# Altium footprint library Si7021-A20.PcbLib: 2 footprints
Each footprint in its own frame and in the unit in brackets; x right, y up, seen from the top. Pads: shape width x height; smd on the part's side, far side on the other; paste and mask are expansions set on the pad; w line width, h text height; cw(c..) or ccw(c..) is an arc to the next point about the centre after c.
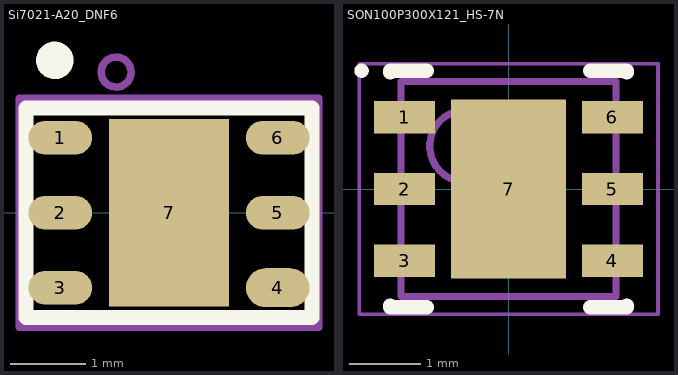
[diagram p0: the footprints below, top view; thin cyan lines are the x and y axes]

## Si7021-A20_DNF6 [mm] "Si7021-A20_DNF6"
pads (7):
  oval 0.85x0.45 smd: 1(5.535,1) 2(5.535,0) 3(5.535,-1) 5(8.435,0) 6(8.435,1)
  oval 0.85x0.52 smd: 4(8.435,-1)
  rect 1.6x2.5 smd: 7(6.985,0)
Top Overlay:
  circle w0.25: c5.461,2.032 r0.125
  lines w0.2: 5.08,-1.397 5.08,1.397 8.89,1.397 8.89,-1.397 5.08,-1.397
Mechanical 13:
  lines w0.1: 6.477,1.905 ccw(c6.279,1.875) 6.479,1.875 ; 4.985,-1.524 4.985,1.524 8.985,1.524 8.985,-1.524 4.985,-1.524
Mechanical 15:
  lines w0.1: 6.485,0 7.485,0 ; 6.985,-0.5 6.985,0.5

## SON100P300X121_HS-7N [mm] "SON, 6-Leads, Body 3,00x3,00mm, Pitch 1,00mm, Thermal Pad 1,60x0,12mm, IPC Medium Density"
height 1.21
pads (7):
  rect 0.85x0.45 smd mask+0: 1(-1.45,1) 2(-1.45,0) 3(-1.45,-1) 4(1.45,-1) 5(1.45,0) 6(1.45,1)
  rect 1.6x2.5 smd: 7(0,0)
Top Overlay:
  circle w0.1: c-2.05,1.65 r0.05
  lines w0.2: -1.65,-1.625 -1.65,-1.65 -1.14,-1.65 ; -1.65,1.625 -1.65,1.65 -1.14,1.65 ; 1.14,-1.65 1.65,-1.65 1.65,-1.625 ; 1.14,1.65 1.65,1.65 1.65,1.625
Mechanical 13:
  circle w0.1: c-0.6,0.6 r0.5
  lines w0.1: -1.5,-1.5 -1.5,1.5 1.5,1.5 1.5,-1.5 -1.5,-1.5
Mechanical 15:
  lines w0.05: -2.085,-1.75 -2.085,1.75 2.085,1.75 2.085,-1.75 -2.085,-1.75
  lines w0.1: -0.5,0 0.5,0 ; 0,-0.5 0,0.5
3D body: height 1.21, standoff 0, extent -1.5,-1.5 1.5,1.5